# EAGLE library part APA102 (library Parts)
APA102C 5050 RGB LED -- Adafruit DotStar Single LED Pixel Product Page: https://www.adafruit.com/products/2343 Datasheet: https://cdn-shop.adafruit.com/product-files/2343/APA102C.pdf
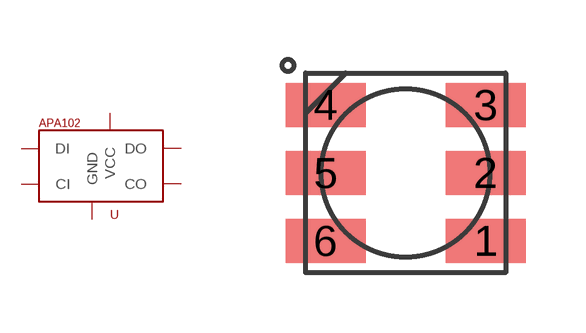
[diagram p4: symbol with the pads of APA102_5050; footprint APA102_5050]

Designator prefix -

## APA1025050  [APA102_5050]
1  VCC  pwr
2  CO  out
3  DO  out
4  DI  in
5  CI  in
6  GND  pwr

## Footprint APA102_5050 (pad centres in mm)
APA102 RGB LED
smd 2 x 1.1: 1 2,-1.7; 2 2,0; 3 2,1.7; 4 -2,1.7; 5 -2,0; 6 -2,-1.7